# Altium schematic symbol library SCH - DIODES - INFINEON BAT15099E6327HTSA1.SCHLIB: 1 symbol
Pins are listed as number, name and electrical type; pins without a type are passive.

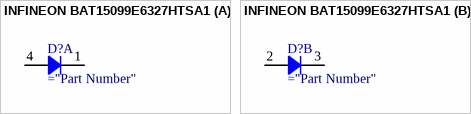
[diagram p0: symbol INFINEON BAT15099E6327HTSA1]

## INFINEON BAT15099E6327HTSA1
designator D?
Anti-parallel silicon RF Schottky diode pair
part A pins: 1, 4
part B pins: 2, 3